# Altium schematic symbol library USB2.0_HUB_FB.SchLib: 1 symbol
Pins are listed as number, name and electrical type; pins without a type are passive.

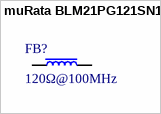
[diagram p0: symbol muRata BLM21PG121SN1D]

## muRata BLM21PG121SN1D
designator FB?, comment 120Ω@100MHz
FERRITE BEAD 120Ω 0805 1LN; Manufacturer: muRata; Manufacturer Part Number: BLM21PG121SN1D; LCSC Part Number: C79382; Package: 0805; Mounting Type: SMD; ComponentLink2Description: Digikey Link; ComponentLink3Description: LCSC Link; ComponentLink3URL: https://www.lcsc.com/product-detail/C79382.html
footprint FB_0805
pins: 1, 2